# EAGLE library part TS5A3159 (library texas-instruments)
1-Ω SPDT Analog Switch
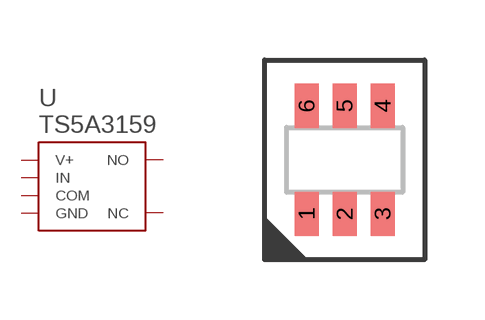
[diagram p25: symbol with the pads of R-PDSO-G6-DBV; footprint R-PDSO-G6-DBV]

Designator prefix U

## TS5A3159DBV  [R-PDSO-G6-DBV]
1  NO
2  GND
3  NC
4  COM
5  V+
6  IN

## Footprint R-PDSO-G6-DBV (pad centres in mm)
smd 0.6 x 1.1: 1 -0.95,-1.35; 2 0,-1.35; 3 0.95,-1.35; 4 0.95,1.35; 5 0,1.35; 6 -0.95,1.35